# Altium schematic symbol library Led_Drivers.SchLib: 1 symbol
Pins are listed as number, name and electrical type; pins without a type are passive.

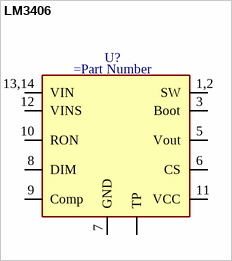
[diagram p0: symbol LM3406]

## LM3406
designator U?
pins: 1,2 SW, 3 Boot, 5 Vout, 6 CS, 7 GND, 8 DIM, 9 Comp, 10 RON, 11 VCC, 12 VINS, 13,14 VIN, TP